# EAGLE library part 613024216921 (library Eagle_BOARD-TO-BOARD_CONNECTORS (rev18b))
WR-PHD 2.54mm Dual S. Header Bottom Entry Large, 24 Pins=>Code : Con_BTB_SHD_2.54_2_613024216921 <http://katalog.we-online.de/media/images/eican/Con_BTB_SHD_2.54_2_6130xx216921_pf2.jpg> Details see: http://katalog.we-online.de/en/em/613_0xx_216_921 Created 2014-05-30, Karrer Zheng 2014 (C) Würth Elektronik
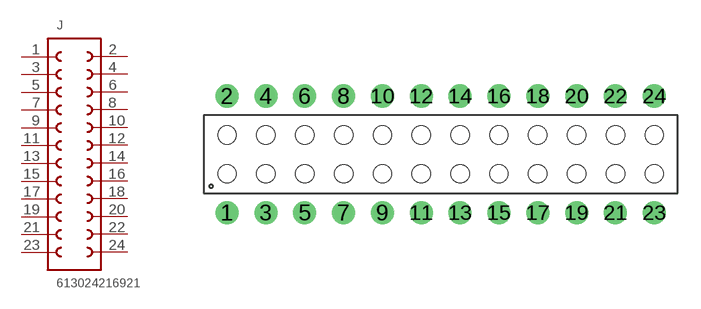
[diagram p172: symbol with the pads of 613024216921; footprint 613024216921]

Designator prefix J

## 613024216921  [613024216921]
1  1  pas
2  24  pas
3  2  pas
4  23  pas
5  3  pas
6  22  pas
7  4  pas
8  21  pas
9  5  pas
10  20  pas
11  6  pas
12  19  pas
13  7  pas
14  18  pas
15  8  pas
16  17  pas
17  9  pas
18  16  pas
19  10  pas
20  15  pas
21  11  pas
22  14  pas
23  12  pas
24  13  pas

## Footprint 613024216921 (pad centres in mm)
WR-PHD 2.54mm Dual S. Header Bottom Entry Large, 24 Pins
drill 1: 1 -13.97,-3.81; 2 -13.97,3.81; 3 -11.43,-3.81; 4 -11.43,3.81; 5 -8.89,-3.81; 6 -8.89,3.81; 7 -6.35,-3.81; 8 -6.35,3.81; 9 -3.81,-3.81; 10 -3.81,3.81; 11 -1.27,-3.81; 12 -1.27,3.81; 13 1.27,-3.81; 14 1.27,3.81; 15 3.81,-3.81; 16 3.81,3.81; 17 6.35,-3.81; 18 6.35,3.81; 19 8.89,-3.81; 20 8.89,3.81; 21 11.43,-3.81; 22 11.43,3.81; 23 13.97,-3.81; 24 13.97,3.81
hole 1.2 at -13.97,1.27
hole 1.2 at -11.43,1.27
hole 1.2 at -11.43,-1.27
hole 1.2 at -13.97,-1.27
hole 1.2 at -8.89,1.27
hole 1.2 at -8.89,-1.27
hole 1.2 at -6.35,-1.27
hole 1.2 at -6.35,1.27
hole 1.2 at -3.81,1.27
hole 1.2 at -3.81,-1.27
hole 1.2 at -1.27,-1.27
hole 1.2 at -1.27,1.27
hole 1.2 at 1.27,1.27
hole 1.2 at 3.81,1.27
hole 1.2 at 1.27,-1.27
hole 1.2 at 3.81,-1.27
hole 1.2 at 6.35,1.27
hole 1.2 at 6.35,-1.27
hole 1.2 at 8.89,1.27
hole 1.2 at 8.89,-1.27
hole 1.2 at 11.43,1.27
hole 1.2 at 11.43,-1.27
hole 1.2 at 13.97,1.27
hole 1.2 at 13.97,-1.27